# Altium schematic symbol library 继电器板_1.SCHLIB: 28 symbols
Pins are listed as number, name and electrical type; pins without a type are passive.

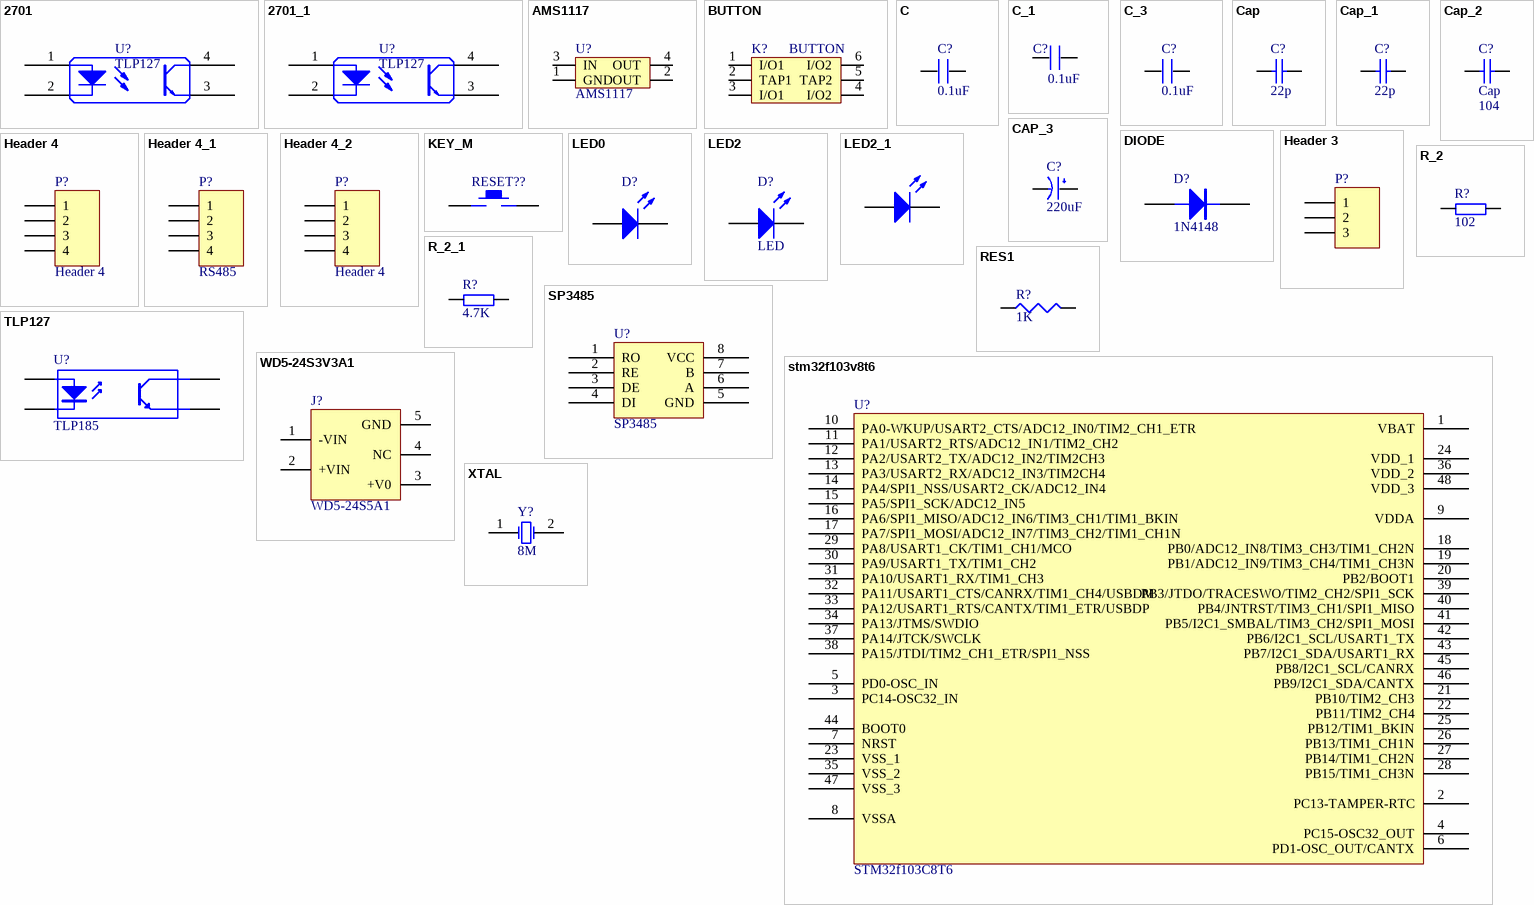
[diagram p0: symbols 2701 to XTAL]

## 2701
designator U?, comment TLP127
footprint 2701
footprint DIP4
footprint SOP4/150
footprint TLP127
footprint SO-4
pins: 1, 2, 3, 4

## 2701_1
designator U?, comment TLP127
footprint 2701
footprint DIP4
footprint TLP127
footprint SO-4
pins: 1, 2, 3, 4

## AMS1117
designator U?
footprint SOT-223
pins: 1 GND, 2 OUT, 3 IN, 4 OUT
2 alternate drawings of the same symbol

## BUTTON
designator K?
footprint BTN8.5*8.5
footprint BTN7*7
pins: 1 I/O1, 2 TAP1, 3 I/O1, 4 I/O2, 5 TAP2, 6 I/O2
2 alternate drawings of the same symbol

## C
designator C?, comment 0.1uF
footprint 0603P
footprint 0805
footprint CC5.08
footprint CC4.572
footprint 0805-1
footprint C0805
pins: 1, 2
2 alternate drawings of the same symbol

## C_1
designator C?, comment 0.1uF
footprint 0603P
footprint 0805-1 (贴片带丝印)
footprint CC5.08 (CAP0.1)
footprint CC4.572 (222/332)
footprint 1206
footprint 1210
footprint CC6.096
footprint CC7.62
footprint 0805
footprint C0805
pins: 1, 2

## C_3
designator C?, comment 0.1uF
footprint 0603P
footprint 0805-1 (贴片带丝印)
footprint CC5.08 (CAP0.1)
footprint CC4.572 (222/332)
footprint 1206
footprint 1210
footprint CC6.096
footprint CC7.62
footprint CVAR (4MM*6.6MM)
footprint 0805
footprint C0805
pins: 1, 2

## Cap
designator C?  value 22p  (hidden comment: Cap)
Capacitor; Published: 8-Jun-2000; LatestRevisionDate: 17-Jul-2002; LatestRevisionNote: Re-released for DXP Platform.; PackageReference: RAD-0.3; Publisher: Altium Limited; PackageDescription: Radial Cap, Thru-Hole; 2 Leads; 0.3 in Pin Spacing
footprint 0805
simulation model CAP (Capacitor)
signal-integrity model Cap
footprint 0603
footprint C0805
pins: 1, 2

## Cap_1
designator C?, comment value 22p  (hidden comment: Cap)
Capacitor; Published: 8-Jun-2000; LatestRevisionDate: 17-Jul-2002; LatestRevisionNote: Re-released for DXP Platform.; PackageReference: RAD-0.3; Publisher: Altium Limited; PackageDescription: Radial Cap, Thru-Hole; 2 Leads; 0.3 in Pin Spacing
footprint RAD-0.3 (Radial Cap, Thru-Hole; 2 Leads; 0.3 in Pin Spacing)
simulation model CAP (Capacitor)
signal-integrity model Cap
footprint 0805
footprint 0603
footprint C0805
pins: 1, 2

## Cap_2
designator C?, comment Cap  value 104
Capacitor; Published: 8-Jun-2000; LatestRevisionDate: 17-Jul-2002; LatestRevisionNote: Re-released for DXP Platform.; PackageReference: RAD-0.3; Publisher: Altium Limited; PackageDescription: Radial Cap, Thru-Hole; 2 Leads; 0.3 in Pin Spacing
footprint RAD-0.3 (Radial Cap, Thru-Hole; 2 Leads; 0.3 in Pin Spacing)
simulation model CAP (Capacitor)
signal-integrity model Cap
footprint 0805
footprint 0603
footprint 0603P
footprint C0805
pins: 1, 2

## CAP_3
designator C?, comment 220uF
footprint 1206
footprint CAP2.54
footprint CAP5.08
footprint CAP7.62
footprint CC6.56.5
pins: 1 VCC, 2 GND
2 alternate drawings of the same symbol

## DIODE
designator D?, comment 1N4148
Diode
footprint DIDOE
pins: 1 A, 2 K

## Header 3
designator P?
Header, 3-Pin; LatestRevisionDate: 17-Jul-2002; LatestRevisionNote: Re-released for DXP Platform.; Publisher: Altium Limited
footprint DZ-3-3.5
signal-integrity model Connector
pins: 1, 2, 3

## Header 4
designator P?
Header, 4-Pin; LatestRevisionDate: 17-Jul-2002; LatestRevisionNote: Re-released for DXP Platform.; Publisher: Altium Limited
footprint IDE4
signal-integrity model Connector
pins: 1, 2, 3, 4

## Header 4_1
designator P?, comment RS485
Header, 4-Pin; LatestRevisionDate: 17-Jul-2002; LatestRevisionNote: Re-released for DXP Platform.; Publisher: Altium Limited
footprint DZ-4-3.5
signal-integrity model Connector
pins: 1, 2, 3, 4

## Header 4_2
designator P?, comment Header 4
Header, 4-Pin; LatestRevisionDate: 17-Jul-2002; LatestRevisionNote: Re-released for DXP Platform.; Publisher: Altium Limited
footprint HDR1X4 (Connector; Header; 5 Position)
signal-integrity model Connector
pins: 1, 2, 3, 4

## KEY_M
designator RESET??  (value not drawn)
footprint SW_PB2_A1
footprint KEY_2 (KEY?)
footprint KEY_SOP_BG (KEY?)
pins: 1, 2

## LED0
designator D?
Typical INFRARED GaAs LED; Published: 8-Jun-2000; LatestRevisionDate: 08-Jul-2005; LatestRevisionNote: Mech Layer 1 removed.; PackageReference: LED-0; Publisher: Altium Limited; PackageDescription: LED; 2 Leads
footprint LED
pins: A, K

## LED2
designator D?, comment LED
Typical RED, GREEN, YELLOW, AMBER GaAs LED; Published: 8-Jun-2000; LatestRevisionDate: 17-Jul-2002; LatestRevisionNote: Re-released for DXP Platform.; PackageVersion: Feb-2002; PackageReference: 3.2X1.6X1.1; Publisher: Altium Limited; PackageDescription: SM LED; 2 Flat Leads
footprint LED
simulation model LED2 (Diode)
pins: 1 A, 2 K

## LED2_1
designator D?
Typical RED, GREEN, YELLOW, AMBER GaAs LED; Published: 8-Jun-2000; LatestRevisionDate: 17-Jul-2002; LatestRevisionNote: Re-released for DXP Platform.; PackageDocument: Feb-2002; PackageReference: 3.2X1.6X1.1; Publisher: Altium Limited
footprint LED
simulation model LED2 (Diode)
footprint DIODE-1206
pins: 1 A, 2 K

## R_2
designator R?, comment 102
footprint 0805
footprint 0805-1 (贴片带丝印)
footprint 0603
footprint 0805
pins: 1, 2

## R_2_1
designator R?, comment 4.7K
footprint 0805
footprint 0603P
footprint 0805-1
pins: 1, 2

## RES1
designator R?, comment 1K
footprint 0805
pins: 1, 2

## SP3485
designator U?
footprint SO-8
pins: 1 RO, 2 RE, 3 DE, 4 DI, 5 GND, 6 A, 7 B, 8 VCC

## stm32f103v8t6
designator U?, comment STM32f103C8T6
footprint LQFP48
pins: 1 VBAT, 2 PC13-TAMPER-RTC, 3 PC14-OSC32_IN, 4 PC15-OSC32_OUT, 5 PD0-OSC_IN, 6 PD1-OSC_OUT/CANTX, 7 NRST, 8 VSSA, 9 VDDA, 10 PA0-WKUP/USART2_CTS/ADC12_IN0/TIM2_CH1_ETR, 11 PA1/USART2_RTS/ADC12_IN1/TIM2_CH2, 12 PA2/USART2_TX/ADC12_IN2/TIM2CH3, 13 PA3/USART2_RX/ADC12_IN3/TIM2CH4, 14 PA4/SPI1_NSS/USART2_CK/ADC12_IN4, 15 PA5/SPI1_SCK/ADC12_IN5, 16 PA6/SPI1_MISO/ADC12_IN6/TIM3_CH1/TIM1_BKIN, 17 PA7/SPI1_MOSI/ADC12_IN7/TIM3_CH2/TIM1_CH1N, 18 PB0/ADC12_IN8/TIM3_CH3/TIM1_CH2N, 19 PB1/ADC12_IN9/TIM3_CH4/TIM1_CH3N, 20 PB2/BOOT1, 21 PB10/TIM2_CH3, 22 PB11/TIM2_CH4, 23 VSS_1, 24 VDD_1, 25 PB12/TIM1_BKIN, 26 PB13/TIM1_CH1N, 27 PB14/TIM1_CH2N, 28 PB15/TIM1_CH3N, 29 PA8/USART1_CK/TIM1_CH1/MCO, 30 PA9/USART1_TX/TIM1_CH2, 31 PA10/USART1_RX/TIM1_CH3, 32 PA11/USART1_CTS/CANRX/TIM1_CH4/USBDM, 33 PA12/USART1_RTS/CANTX/TIM1_ETR/USBDP, 34 PA13/JTMS/SWDIO, 35 VSS_2, 36 VDD_2, 37 PA14/JTCK/SWCLK, 38 PA15/JTDI/TIM2_CH1_ETR/SPI1_NSS, 39 PB3/JTDO/TRACESWO/TIM2_CH2/SPI1_SCK, 40 PB4/JNTRST/TIM3_CH1/SPI1_MISO, 41 PB5/I2C1_SMBAL/TIM3_CH2/SPI1_MOSI, 42 PB6/I2C1_SCL/USART1_TX, 43 PB7/I2C1_SDA/USART1_RX, 44 BOOT0, 45 PB8/I2C1_SCL/CANRX, 46 PB9/I2C1_SDA/CANTX, 47 VSS_3, 48 VDD_3

## TLP127
designator U?, comment TLP185
footprint TLP127
pins: 1 ANODE, 3 CATHODE, 4 EMITTER, 6 COLLECTOR

## WD5-24S3V3A1
designator J?, comment WD5-24S5A1
footprint WD5-24S3V3
pins: 1 -VIN, 2 +VIN, 3 +V0, 4 NC, 5 GND

## XTAL
designator Y?, comment 8M
Crystal Oscillator; Published: 8-Jun-2000; LatestRevisionDate: 17-Jul-2002; LatestRevisionNote: Re-released for DXP Platform.; PackageReference: R38; Publisher: Altium Limited; PackageDescription: Crystal, Thru-Hole; 2 Leads; Body 3.1 x 8.2 mm (Dia.xH)
footprint XTAL_US
simulation model XTAL (Spice Subcircuit)
pins: 1 OSC1, 2 OSC2